# EAGLE library part TG12864E-02A (library MyLibrary)
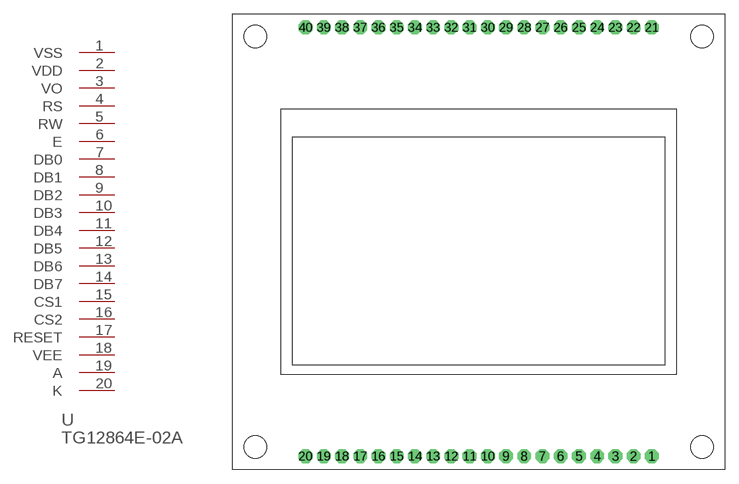
[diagram p21: symbol with the pads of TG12864E-02A; footprint TG12864E-02A]

Designator prefix -

## TG12864E-02A  [TG12864E-02A]
1  VSS
2  VDD
3  VO
4  RS
5  RW
6  E
7  DB0
8  DB1
9  DB2
10  DB3
11  DB4
12  DB5
13  DB6
14  DB7
15  CS1
16  CS2
17  RESET
18  VEE
19  A
20  K

## Footprint TG12864E-02A (pad centres in mm)
drill 1 octagon: 1 19,-23.5; 2 17,-23.5; 3 15,-23.5; 4 13,-23.5; 5 11,-23.5; 6 9,-23.5; 7 7,-23.5; 8 5,-23.5; 9 3,-23.5; 10 1,-23.5; 11 -1,-23.5; 12 -3,-23.5; 13 -5,-23.5; 14 -7,-23.5; 15 -9,-23.5; 16 -11,-23.5; 17 -13,-23.5; 18 -15,-23.5; 19 -17,-23.5; 20 -19,-23.5; 21 19,23.5; 22 17,23.5; 23 15,23.5; 24 13,23.5; 25 11,23.5; 26 9,23.5; 27 7,23.5; 28 5,23.5; 29 3,23.5; 30 1,23.5; 31 -1,23.5; 32 -3,23.5; 33 -5,23.5; 34 -7,23.5; 35 -9,23.5; 36 -11,23.5; 37 -13,23.5; 38 -15,23.5; 39 -17,23.5; 40 -19,23.5
hole 2.5 at -24.5,22.5
hole 2.5 at 24.5,22.5
hole 2.5 at 24.5,-22.5
hole 2.5 at -24.5,-22.5